# Altium footprint library oscilator.PcbLib: 34 footprints (part 1 of 3)
Each footprint in its own frame and in the unit in brackets; x right, y up, seen from the top. Pads: shape width x height; smd on the part's side, far side on the other; paste and mask are expansions set on the pad; w line width, h text height; cw(c..) or ccw(c..) is an arc to the next point about the centre after c.
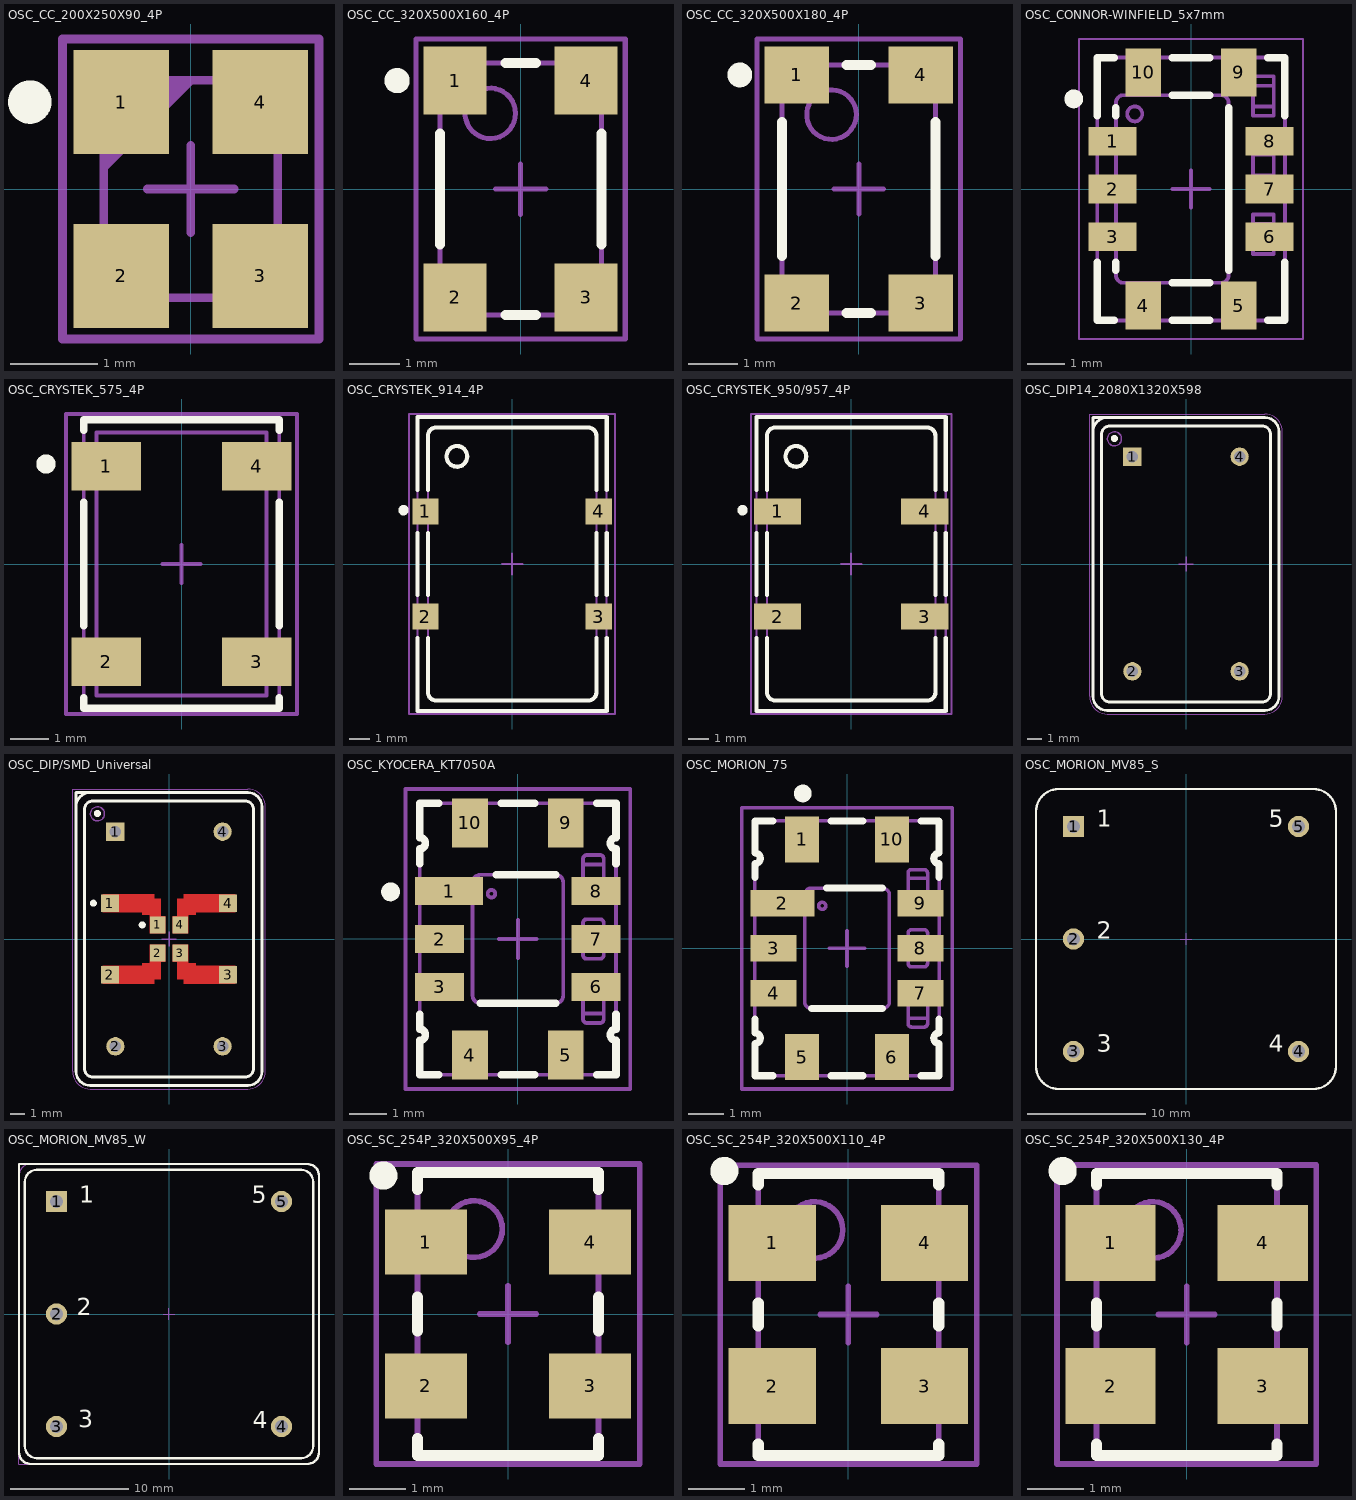
[diagram p0: the footprints below, top view; thin cyan lines are the x and y axes]

## OSC_CC_200X250X90_4P [mm] "Oscillator, corner concave; 4 pin, 2.50mm L X 2.00mm W X 0.90mm H, IPC Medium Density"
height 0.9
pads (4):
  rect 1.1x1.2 smd: 1(-0.8,1) 2(-0.8,-1) 3(0.8,-1) 4(0.8,1)
Top Overlay:
  circle w0.25: c-1.85,1 r0.125
Mechanical 1:
  lines w0.1: -1,0.25 0,1.25 ; -1,0.35 -0.1,1.25 ; -1,0.45 -0.2,1.25 ; -1,0.55 -0.3,1.25 ; -1,0.65 -0.4,1.25 ; -1,0.75 -0.5,1.25 ; -1,0.85 -0.6,1.25 ; -1,0.95 -0.7,1.25 ; -1,1.05 -0.8,1.25 ; -1,1.15 -0.9,1.25 ; -1,-1.25 -1,1.25 1,1.25 1,-1.25 -1,-1.25
Mechanical 15:
  lines w0.1: -0.5,0 0.5,0 ; 0,-0.5 0,0.5 ; -1.475,-1.725 1.475,-1.725 1.475,1.725 -1.475,1.725 -1.475,-1.725
3D body "OSCCC200X250X90-4N.stp": height 0.8, standoff 0, extent -1.075,-1.325 1.075,1.325

## OSC_CC_320X500X160_4P [mm] "SMD Oscillator, Corner Convave, 4 pins, 5x3.2mm"
height 1.6
pads (4):
  rect 1.25x1.35 smd: 1(-1.3,2.15) 2(-1.3,-2.15) 3(1.3,-2.15) 4(1.3,2.15)
Top Overlay:
  circle w0.25: c-2.45,2.15 r0.125
  lines w0.2: -1.6,-1.1 -1.6,1.1 ; -0.3,-2.5 0.3,-2.5 ; -0.3,2.5 0.3,2.5 ; 1.6,-1.1 1.6,1.1
Mechanical 1:
  circle w0.1: c-0.6,1.5 r0.5
  lines w0.1: -1.6,-2.5 1.6,-2.5 1.6,2.5 -1.6,2.5 -1.6,-2.5
Mechanical 15:
  lines w0.1: -0.5,0 0.5,0 ; 0,-0.5 0,0.5 ; -2.075,-2.974 2.075,-2.974 2.075,2.975 -2.075,2.975 -2.075,-2.974
3D body "OSCCC320X500X160-4N.stp": height 1.6, standoff 0, extent -1.675,-2.575 1.675,2.575

## OSC_CC_320X500X180_4P [mm] "SMD Oscillator, Corner Convave, 4 pins, 5x3mm"
height 1.8
pads (4):
  rect 1.3x1.15 smd: 1(-1.25,2.3) 2(-1.25,-2.3) 3(1.25,-2.3) 4(1.25,2.3)
Top Overlay:
  circle w0.25: c-2.4,2.3 r0.125
  lines w0.2: -1.55,-1.35 -1.55,1.35 ; -0.25,-2.5 0.25,-2.5 ; -0.25,2.5 0.25,2.5 ; 1.55,-1.35 1.55,1.35
Mechanical 1:
  circle w0.1: c-0.55,1.5 r0.5
  lines w0.1: -1.55,-2.5 -1.55,2.5 1.55,2.5 1.55,-2.5 -1.55,-2.5
Mechanical 15:
  lines w0.1: -0.5,0 0.5,0 ; 0,-0.5 0,0.5 ; -2.05,-3.025 -2.05,3.025 2.05,3.025 2.05,-3.025 -2.05,-3.025
3D body "OSCCC320X500X180-4N.stp": height 1.8, standoff 0, extent -1.7,-2.6 1.7,2.6

## OSC_CONNOR-WINFIELD_5x7mm [mm] "SMD TCXO, Side Concave, 10 pins, 5.00x7.00mm"
height 2
pads (10):
  rect 1.28x0.76 smd: 1(-2.09,1.27) 2(-2.09,0) 3(-2.09,-1.27) 6(2.09,-1.27) 7(2.09,0) 8(2.09,1.27)
  rect 0.94x1.28 smd: 4(-1.27,-3.105) 5(1.27,-3.105) 9(1.27,3.105) 10(-1.27,3.105)
Top Overlay:
  circle w0.25: c-3.125,2.4 r0.125
  lines w0.2: -2.5,-1.95 -2.5,-3.5 -2.04,-3.5 ; -2.5,1.95 -2.5,3.5 -2.04,3.5 ; -2,-2.165 -2,-1.95 ; -2,1.95 -2,2.165 ; -0.5,-3.5 0.5,-3.5 ; -0.5,-2.5 0.5,-2.5 ; -0.5,2.5 0.5,2.5 ; -0.5,3.5 0.5,3.5 ; 1,-2.165 1,2.165 ; 2.04,-3.5 2.5,-3.5 2.5,-1.95 ; 2.04,3.5 2.5,3.5 2.5,1.95
Mechanical 1:
  circle w0.1: c-1.5,2 r0.2
  lines w0.1: 1.556,-3.5 1.651,-3.5 ; 1.65,-1.48 2.2,-1.48 ; 1.65,-0.93 2.2,-0.93 ; 1.65,0.36 2.2,0.36 ; 1.65,0.91 2.2,0.91 ; 1.65,2.2 2.2,2.2 ; 1.651,2.75 2.2,2.75 ; -2.5,-3.5 -2.5,-1.508 ccw(c-2.5,-1.27) -2.5,-1.032 -2.5,-0.238 ccw(c-2.5,0) -2.5,0.238 -2.5,1.032 ccw(c-2.5,1.27) -2.5,1.508 -2.5,3.5 -1.581,3.5 ccw(c-1.27,3.5) -0.959,3.5 0.959,3.5 ccw(c1.27,3.5) 1.581,3.5 2.5,3.5 2.5,1.508 ccw(c2.5,1.27) 2.5,1.032 2.5,0.238 ccw(c2.5,0) 2.5,-0.238 2.5,-1.032 ccw(c2.5,-1.27) 2.5,-1.508 2.5,-3.5 1.581,-3.5 ccw(c1.27,-3.5) 0.959,-3.5 -0.959,-3.5 ccw(c-1.27,-3.5) -1.581,-3.5 -2.5,-3.5 ; -2,-2.3 ccw(c-1.8,-2.3) -1.8,-2.5 0.8,-2.5 ccw(c0.8,-2.3) 1,-2.3 1,2.3 ccw(c0.8,2.3) 0.8,2.5 -1.8,2.5 ccw(c-1.8,2.3) -2,2.3 -2,-2.3 ; 1.65,-1.73 1.65,-0.68 2.2,-0.68 2.2,-1.73 1.65,-1.73 ; 1.65,0.11 1.65,1.16 2.2,1.16 2.2,0.11 1.65,0.11 ; 1.651,1.95 1.651,3 2.2,3 2.2,1.95 1.651,1.95
Mechanical 15:
  lines w0.05: -2.98,-3.995 2.98,-3.995 2.98,3.995 -2.98,3.995 -2.98,-3.995
  lines w0.1: -0.5,0 0,0 ; 0,-0.5 0,0 ; 0,0.5 0,0 ; 0.5,0 0,0
3D body "OSC_CONNOR-WINFIELD_D75.stp": height 2, standoff 0, extent -2.5,-3.5 2.5,3.5

## OSC_CRYSTEK_575_4P [mm] "Oscillator, 5.08mm Pitch; 4 Pin, 5.08mm L X 7.5mm W X 2.5mm H"
height 2.5
pads (4):
  rect 1.8x1.27 smd: 1(-1.955,2.54) 2(-1.955,-2.54) 3(1.955,-2.54) 4(1.955,2.54)
Top Overlay:
  circle w0.25: c-3.525,2.6 r0.125
  lines w0.2: -2.54,-3.475 -2.54,-3.75 2.54,-3.75 2.54,-3.475 ; -2.54,-1.605 -2.54,1.605 ; -2.54,3.475 -2.54,3.75 2.54,3.75 2.54,3.475 ; 2.54,-1.605 2.54,1.605
Mechanical 1:
  circle w0.1: c-1.555,2.55 r0.4
  lines w0.1: -2.54,-3.75 2.54,-3.75 2.54,3.75 -2.54,3.75 -2.54,-3.75 ; -2.21,-3.42 2.21,-3.42 2.21,3.42 -2.21,3.42 -2.21,-3.42
Mechanical 15:
  lines w0.1: -0.5,0 0,0 ; 0,-0.5 0,0 ; 0,0.5 0,0 ; 0.5,0 0,0 ; -3,-3.9 -3,3.9 3,3.9 3,-3.9 -3,-3.9
3D body "OSC_CRYSTEK_CCHD-575.stp": height 2.5, standoff 0, extent -2.54,-3.75 2.54,3.75

## OSC_CRYSTEK_914_4P [mm] "Oscillator, 5.08mm Pitch; 4 Pin, 14.2mm L X 9.14mm W X 5.33mm H"
height 5.33
pads (4):
  rect 1.27x1.27 smd: 1(-4.19,2.54) 2(-4.19,-2.54) 3(4.19,-2.54) 4(4.19,2.54)
Top Overlay:
  circle w0.2: c-2.67,5.2 r0.5
  circle w0.25: c-5.25,2.6 r0.125
  lines w0.2: -4.57,-3.575 -4.57,-7.1 4.57,-7.1 4.57,-3.575 ; -4.57,-1.505 -4.57,1.505 ; -4.57,3.575 -4.57,7.1 4.57,7.1 4.57,3.575 ; -4.07,-3.575 -4.07,-6.2 ccw(c-3.67,-6.2) -3.67,-6.6 3.67,-6.6 ccw(c3.67,-6.2) 4.07,-6.2 4.07,-3.575 ; -4.07,-1.505 -4.07,1.505 ; -4.07,3.575 -4.07,6.2 cw(c-3.67,6.2) -3.67,6.6 3.67,6.6 cw(c3.67,6.2) 4.07,6.2 4.07,3.575 ; 4.07,-1.505 4.07,1.505 ; 4.57,-1.505 4.57,1.505
Mechanical 1:
  circle w0.1: c-2.67,5.2 r0.5
  lines w0.1: -4.57,-3.045 -4.07,-3.045 ; -4.57,-2.035 -4.07,-2.035 ; -4.57,2.035 -4.07,2.035 ; -4.57,3.045 -4.07,3.045 ; 4.07,-3.045 4.57,-3.045 ; 4.07,-2.035 4.57,-2.035 ; 4.07,2.035 4.57,2.035 ; 4.07,3.045 4.57,3.045 ; -4.57,-7.1 4.57,-7.1 4.57,-2.94 cw(c4.57,-2.54) 4.57,-2.14 4.57,2.14 cw(c4.57,2.54) 4.57,2.94 4.57,7.1 -4.57,7.1 -4.57,2.94 cw(c-4.57,2.54) -4.57,2.14 -4.57,-2.14 cw(c-4.57,-2.54) -4.57,-2.94 -4.57,-7.1 ; -4.07,-6.2 ccw(c-3.67,-6.2) -3.67,-6.6 3.67,-6.6 ccw(c3.67,-6.2) 4.07,-6.2 4.07,6.2 ccw(c3.67,6.2) 3.67,6.6 -3.67,6.6 ccw(c-3.67,6.2) -4.07,6.2 -4.07,-6.2
Mechanical 15:
  lines w0.1: -0.5,0 0,0 ; 0,-0.5 0,0 ; 0,0.5 0,0 ; 0.5,0 0,0 ; -4.975,-7.25 -4.975,7.25 4.975,7.25 4.975,-7.25 -4.975,-7.25
3D body "OSC_CRYSTEK_CVCSO-914.stp": height 5.3, standoff 0, extent -4.57,-7.1 4.57,7.1

## OSC_CRYSTEK_950/957_4P [mm] "Oscillator, 5.08mm Pitch; 4 Pin, 14.2mm L X 9.14mm W X 5.3mm H"
height 5.3
pads (4):
  rect 2.28x1.27 smd: 1(-3.555,2.54) 2(-3.555,-2.54) 3(3.555,-2.54) 4(3.555,2.54)
Top Overlay:
  circle w0.25: c-5.25,2.6 r0.125
  circle w0.2: c-2.67,5.2 r0.5
  lines w0.2: -4.57,-3.575 -4.57,-7.1 4.57,-7.1 4.57,-3.575 ; -4.57,-1.505 -4.57,1.505 ; -4.57,3.575 -4.57,7.1 4.57,7.1 4.57,3.575 ; -4.07,-3.575 -4.07,-6.2 ccw(c-3.67,-6.2) -3.67,-6.6 3.67,-6.6 ccw(c3.67,-6.2) 4.07,-6.2 4.07,-3.575 ; -4.07,-1.505 -4.07,1.505 ; -4.07,3.575 -4.07,6.2 cw(c-3.67,6.2) -3.67,6.6 3.67,6.6 cw(c3.67,6.2) 4.07,6.2 4.07,3.575 ; 4.07,-1.505 4.07,1.505 ; 4.57,-1.505 4.57,1.505
Mechanical 1:
  circle w0.1: c-2.67,5.2 r0.5
  lines w0.1: -4.57,-3.045 -4.07,-3.045 ; -4.57,-2.035 -4.07,-2.035 ; -4.57,2.035 -4.07,2.035 ; -4.57,3.045 -4.07,3.045 ; 4.07,-3.045 4.57,-3.045 ; 4.07,-2.035 4.57,-2.035 ; 4.07,2.035 4.57,2.035 ; 4.07,3.045 4.57,3.045 ; -4.57,-7.1 -4.57,-2.94 ccw(c-4.57,-2.54) -4.57,-2.14 -4.57,2.14 ccw(c-4.57,2.54) -4.57,2.94 -4.57,7.1 4.57,7.1 4.57,2.94 ccw(c4.57,2.54) 4.57,2.14 4.57,-2.14 ccw(c4.57,-2.54) 4.57,-2.94 4.57,-7.1 -4.57,-7.1 ; -4.07,-6.2 ccw(c-3.67,-6.2) -3.67,-6.6 3.67,-6.6 ccw(c3.67,-6.2) 4.07,-6.2 4.07,6.2 ccw(c3.67,6.2) 3.67,6.6 -3.67,6.6 ccw(c-3.67,6.2) -4.07,6.2 -4.07,-6.2
Mechanical 15:
  lines w0.1: -0.5,0 0,0 ; 0,-0.5 0,0 ; 0,0.5 0,0 ; 0.5,0 0,0 ; -4.85,-7.25 4.85,-7.25 4.85,7.25 -4.85,7.25 -4.85,-7.25
3D body "OSC_CRYSTEK_CVHD-950.stp": height 5.3, standoff 0, extent -4.57,-7.1 4.57,7.1

## OSC_DIP14_2080X1320X598 [mm] "Oscillator DIP 14 Leads, Row Spacing 7.62 mm; Pitch 2.54mm"
height 5.98
pads (4):
  rect 1.3x1.3 hole 0.8: 1(-3.81,7.62)
  round 1.3 hole 0.8: 2(-3.81,-7.62) 3(3.81,-7.62) 4(3.81,7.62)
Top Overlay:
  circle w0.25: c-5.081,8.911 r0.125
  lines w0.2: -6.6,9.4 cw(c-5.6,9.4) -5.6,10.4 ; -6.6,-9.4 ccw(c-5.6,-9.4) -5.6,-10.4 5.6,-10.4 ccw(c5.6,-9.4) 6.6,-9.4 6.6,9.4 ccw(c5.6,9.4) 5.6,10.4 -6.6,10.4 -6.6,-9.4 ; -6,-9.2 ccw(c-5.4,-9.2) -5.4,-9.8 5.4,-9.8 ccw(c5.4,-9.2) 6,-9.2 6,9.2 ccw(c5.4,9.2) 5.4,9.8 -5.4,9.8 ccw(c-5.4,9.2) -6,9.2 -6,-9.2
Mechanical 1:
  circle w0.1: c-5.08,8.89 r0.5
  lines w0.1: -6.6,9.4 cw(c-5.6,9.4) -5.6,10.4 ; -6.6,-9.4 ccw(c-5.6,-9.4) -5.6,-10.4 5.6,-10.4 ccw(c5.6,-9.4) 6.6,-9.4 6.6,9.4 ccw(c5.6,9.4) 5.6,10.4 -6.6,10.4 -6.6,-9.4 ; -6,-9.2 ccw(c-5.4,-9.2) -5.4,-9.8 5.4,-9.8 ccw(c5.4,-9.2) 6,-9.2 6,9.2 ccw(c5.4,9.2) 5.4,9.8 -5.4,9.8 ccw(c-5.4,9.2) -6,9.2 -6,-9.2
Mechanical 15:
  lines w0.05: -6.85,-9.4 ccw(c-5.6,-9.4) -5.6,-10.65 5.6,-10.65 ccw(c5.6,-9.4) 6.85,-9.4 6.85,9.4 ccw(c5.6,9.4) 5.6,10.65 -6.85,10.65 -6.85,-9.4
  lines w0.1: -0.5,0 0,0 ; 0,-0.5 0,0 ; 0,0.5 0,0 ; 0.5,0 0,0
3D body "OSCDIP14-300_L2080T1320H598-4A.stp": height 5.98, standoff -3.6, extent -6.6,-10.4 6.6,10.4

## OSC_DIP/SMD_Universal [mm] "Oscillator DIP/SMD Universal"
height 5.98
pads (12):
  rect 1.27x1.27 smd: 1(-4.19,2.54) 2(-4.19,-2.54) 3(4.19,-2.54) 4(4.19,2.54)
  rect 1.3x1.3 hole 0.8: 1(-3.81,7.62)
  rect 1.1x1.2 smd: 1(-0.8,1) 2(-0.8,-1) 3(0.8,-1) 4(0.8,1)
  round 1.3 hole 0.8: 2(-3.81,-7.62) 3(3.81,-7.62) 4(3.81,7.62)
Top Layer:
  region: -1.9,1.905 -3.24,1.905 -4.695,1.905 -4.695,3.175 -1.055,3.175 -1.055,2.875 -0.6,2.875 -0.6,2.228 -0.6,1.725 -1.9,1.725
  region: -1.9,-1.905 -3.24,-1.905 -4.695,-1.905 -4.695,-3.175 -1.055,-3.175 -1.055,-2.875 -0.6,-2.875 -0.6,-2.228 -0.6,-1.725 -1.9,-1.725
  region: -1.35,0.4 -1.35,1.806 -0.6,1.806 -0.6,1.6 -0.25,1.6 -0.25,0.4
  region: 1.9,1.905 3.24,1.905 4.695,1.905 4.695,3.175 1.055,3.175 1.055,2.875 0.601,2.875 0.6,2.228 0.601,1.725 1.9,1.725
  region: 1.35,0.4 1.35,1.806 0.6,1.806 0.6,1.6 0.25,1.6 0.25,0.4
  region: -1.35,-0.4 -1.35,-1.806 -0.6,-1.806 -0.6,-1.6 -0.25,-1.6 -0.25,-0.4
  region: 1.9,-1.905 3.24,-1.905 4.695,-1.905 4.695,-3.175 1.055,-3.175 1.055,-2.875 0.601,-2.875 0.6,-2.228 0.601,-1.725 1.9,-1.725
  region: 1.35,-0.4 1.35,-1.806 0.601,-1.806 0.601,-1.6 0.25,-1.6 0.25,-0.4
Top Overlay:
  circle w0.25: c-5.081,8.911 r0.125
  circle w0.25: c-5.375,2.54 r0.125
  circle w0.25: c-1.9,1 r0.125
  lines w0.2: -6.6,9.4 cw(c-5.6,9.4) -5.6,10.4 ; -6.6,-9.4 ccw(c-5.6,-9.4) -5.6,-10.4 5.6,-10.4 ccw(c5.6,-9.4) 6.6,-9.4 6.6,9.4 ccw(c5.6,9.4) 5.6,10.4 -6.6,10.4 -6.6,-9.4 ; -6,-9.2 ccw(c-5.4,-9.2) -5.4,-9.8 5.4,-9.8 ccw(c5.4,-9.2) 6,-9.2 6,9.2 ccw(c5.4,9.2) 5.4,9.8 -5.4,9.8 ccw(c-5.4,9.2) -6,9.2 -6,-9.2
Mechanical 1:
  circle w0.1: c-5.08,8.89 r0.5
  lines w0.1: -6.6,9.4 cw(c-5.6,9.4) -5.6,10.4 ; -6.6,-9.4 ccw(c-5.6,-9.4) -5.6,-10.4 5.6,-10.4 ccw(c5.6,-9.4) 6.6,-9.4 6.6,9.4 ccw(c5.6,9.4) 5.6,10.4 -6.6,10.4 -6.6,-9.4 ; -6,-9.2 ccw(c-5.4,-9.2) -5.4,-9.8 5.4,-9.8 ccw(c5.4,-9.2) 6,-9.2 6,9.2 ccw(c5.4,9.2) 5.4,9.8 -5.4,9.8 ccw(c-5.4,9.2) -6,9.2 -6,-9.2
Mechanical 15:
  lines w0.05: -6.85,-9.4 ccw(c-5.6,-9.4) -5.6,-10.65 5.6,-10.65 ccw(c5.6,-9.4) 6.85,-9.4 6.85,9.4 ccw(c5.6,9.4) 5.6,10.65 -6.85,10.65 -6.85,-9.4
  lines w0.1: -0.5,0 0.5,0 ; 0,-0.5 0,0.5
3D body "OSCCC200X250X90-4N.stp": height 0.8, standoff 0, extent -1.075,-1.325 1.075,1.325

## OSC_KYOCERA_KT7050A [mm] "Oscillator KT7050A Series, 10 pins, 5x7mm"
height 1.7
pads (10):
  rect 1.8x0.75 smd: 1(-1.825,1.27)
  rect 1.3x0.75 smd: 2(-2.075,0) 3(-2.075,-1.27) 6(2.075,-1.27) 7(2.075,0) 8(2.075,1.27)
  rect 0.95x1.3 smd: 4(-1.27,-3.075) 5(1.27,-3.075) 9(1.27,3.075) 10(-1.27,3.075)
Top Overlay:
  circle w0.25: c-3.375,1.25 r0.125
  lines w0.2: -2.6,-1.995 -2.6,-2.39 cw(c-2.6,-2.54) -2.6,-2.69 -2.6,-3.6 -2.095,-3.6 ; -2.6,1.995 -2.6,2.39 ccw(c-2.6,2.54) -2.6,2.69 -2.6,3.6 -2.095,3.6 ; -1,-1.7 1,-1.7 ; -0.575,1.7 1,1.7 ; -0.445,-3.6 0.445,-3.6 ; -0.445,3.6 0.445,3.6 ; 2.095,-3.6 2.6,-3.6 2.6,-2.69 cw(c2.6,-2.54) 2.6,-2.39 2.6,-1.995 ; 2.095,3.6 2.6,3.6 2.6,2.69 ccw(c2.6,2.54) 2.6,2.39 2.6,1.995
Mechanical 1:
  circle w0.1: c-0.7,1.2 r0.1
  lines w0.1: 1.725,-1.975 2.275,-1.975 ; 1.725,-1.425 2.275,-1.425 ; 1.725,-0.275 2.275,-0.275 ; 1.725,0.275 2.275,0.275 ; 1.725,1.425 2.275,1.425 ; 1.725,1.975 2.275,1.975 ; -2.6,-3.6 -1.42,-3.6 cw(c-1.27,-3.6) -1.12,-3.6 1.12,-3.6 cw(c1.27,-3.6) 1.42,-3.6 2.6,-3.6 2.6,-2.69 cw(c2.6,-2.54) 2.6,-2.39 2.6,-1.42 cw(c2.6,-1.27) 2.6,-1.12 2.6,-0.15 cw(c2.6,0) 2.6,0.15 2.6,1.12 cw(c2.6,1.27) 2.6,1.42 2.6,2.39 cw(c2.6,2.54) 2.6,2.69 2.6,3.6 1.42,3.6 cw(c1.27,3.6) 1.12,3.6 -1.12,3.6 cw(c-1.27,3.6) -1.42,3.6 -2.6,3.6 -2.6,2.69 cw(c-2.6,2.54) -2.6,2.39 -2.6,1.42 cw(c-2.6,1.27) -2.6,1.12 -2.6,0.15 cw(c-2.6,0) -2.6,-0.15 -2.6,-1.12 cw(c-2.6,-1.27) -2.6,-1.42 -2.6,-2.39 cw(c-2.6,-2.54) -2.6,-2.69 -2.6,-3.6 ; -1.2,-1.5 ccw(c-1,-1.5) -1,-1.7 1,-1.7 ccw(c1,-1.5) 1.2,-1.5 1.2,1.5 ccw(c1,1.5) 1,1.7 -1,1.7 ccw(c-1,1.5) -1.2,1.5 -1.2,-1.5 ; 1.725,-2.125 ccw(c1.825,-2.125) 1.825,-2.225 2.175,-2.225 ccw(c2.175,-2.125) 2.275,-2.125 2.275,-1.275 ccw(c2.175,-1.275) 2.175,-1.175 1.825,-1.175 ccw(c1.825,-1.275) 1.725,-1.275 1.725,-2.125 ; 1.725,-0.425 ccw(c1.825,-0.425) 1.825,-0.525 2.175,-0.525 ccw(c2.175,-0.425) 2.275,-0.425 2.275,0.425 ccw(c2.175,0.425) 2.175,0.525 1.825,0.525 ccw(c1.825,0.425) 1.725,0.425 1.725,-0.425 ; 1.725,1.275 ccw(c1.825,1.275) 1.825,1.175 2.175,1.175 ccw(c2.175,1.275) 2.275,1.275 2.275,2.125 ccw(c2.175,2.125) 2.175,2.225 1.825,2.225 ccw(c1.825,2.125) 1.725,2.125 1.725,1.275
Mechanical 15:
  lines w0.1: -0.5,0 0,0 ; 0,-0.5 0,0 ; 0,0.5 0,0 ; 0.5,0 0,0 ; -2.975,-3.975 2.975,-3.975 2.975,3.975 -2.975,3.975 -2.975,-3.975
3D body "OSC_KYOCERA_KT7050A.stp": height 1.7, standoff 0, extent -2.6,-3.6 2.6,3.6

## OSC_MORION_75 [mm] "SMD TCXO, Side Concave, 10 pins, 5.00x7.00mm"
height 1.7
pads (10):
  rect 0.95x1.3 smd: 1(-1.27,3.075) 5(-1.27,-3.075) 6(1.27,-3.075) 10(1.27,3.075)
  rect 1.8x0.75 smd: 2(-1.825,1.27)
  rect 1.3x0.75 smd: 3(-2.075,0) 4(-2.075,-1.27) 7(2.075,-1.27) 8(2.075,0) 9(2.075,1.27)
Top Overlay:
  circle w0.25: c-1.25,4.375 r0.125
  lines w0.2: -2.6,-1.995 -2.6,-2.39 cw(c-2.6,-2.54) -2.6,-2.69 -2.6,-3.6 -2.095,-3.6 ; -2.6,1.995 -2.6,2.39 ccw(c-2.6,2.54) -2.6,2.69 -2.6,3.6 -2.095,3.6 ; -1,-1.7 1,-1.7 ; -0.575,1.7 1,1.7 ; -0.445,-3.6 0.445,-3.6 ; -0.445,3.6 0.445,3.6 ; 2.095,-3.6 2.6,-3.6 2.6,-2.69 cw(c2.6,-2.54) 2.6,-2.39 2.6,-1.995 ; 2.095,3.6 2.6,3.6 2.6,2.69 ccw(c2.6,2.54) 2.6,2.39 2.6,1.995
Mechanical 1:
  circle w0.1: c-0.7,1.2 r0.1
  lines w0.1: 1.725,-1.975 2.275,-1.975 ; 1.725,-1.425 2.275,-1.425 ; 1.725,-0.275 2.275,-0.275 ; 1.725,0.275 2.275,0.275 ; 1.725,1.425 2.275,1.425 ; 1.725,1.975 2.275,1.975 ; -2.6,-3.6 -2.6,-2.69 ccw(c-2.6,-2.54) -2.6,-2.39 -2.6,-1.42 ccw(c-2.6,-1.27) -2.6,-1.12 -2.6,-0.15 ccw(c-2.6,0) -2.6,0.15 -2.6,1.12 ccw(c-2.6,1.27) -2.6,1.42 -2.6,2.39 ccw(c-2.6,2.54) -2.6,2.69 -2.6,3.6 -1.42,3.6 ccw(c-1.27,3.6) -1.12,3.6 1.12,3.6 ccw(c1.27,3.6) 1.42,3.6 2.6,3.6 2.6,2.69 ccw(c2.6,2.54) 2.6,2.39 2.6,1.42 ccw(c2.6,1.27) 2.6,1.12 2.6,0.15 ccw(c2.6,0) 2.6,-0.15 2.6,-1.12 ccw(c2.6,-1.27) 2.6,-1.42 2.6,-2.39 ccw(c2.6,-2.54) 2.6,-2.69 2.6,-3.6 1.42,-3.6 ccw(c1.27,-3.6) 1.12,-3.6 -1.12,-3.6 ccw(c-1.27,-3.6) -1.42,-3.6 -2.6,-3.6 ; -1.2,-1.5 ccw(c-1,-1.5) -1,-1.7 1,-1.7 ccw(c1,-1.5) 1.2,-1.5 1.2,1.5 ccw(c1,1.5) 1,1.7 -1,1.7 ccw(c-1,1.5) -1.2,1.5 -1.2,-1.5 ; 1.725,-2.125 ccw(c1.825,-2.125) 1.825,-2.225 2.175,-2.225 ccw(c2.175,-2.125) 2.275,-2.125 2.275,-1.275 ccw(c2.175,-1.275) 2.175,-1.175 1.825,-1.175 ccw(c1.825,-1.275) 1.725,-1.275 1.725,-2.125 ; 1.725,-0.425 ccw(c1.825,-0.425) 1.825,-0.525 2.175,-0.525 ccw(c2.175,-0.425) 2.275,-0.425 2.275,0.425 ccw(c2.175,0.425) 2.175,0.525 1.825,0.525 ccw(c1.825,0.425) 1.725,0.425 1.725,-0.425 ; 1.725,1.275 ccw(c1.825,1.275) 1.825,1.175 2.175,1.175 ccw(c2.175,1.275) 2.275,1.275 2.275,2.125 ccw(c2.175,2.125) 2.175,2.225 1.825,2.225 ccw(c1.825,2.125) 1.725,2.125 1.725,1.275
Mechanical 15:
  lines w0.1: -0.5,0 0,0 ; 0,-0.5 0,0 ; 0,0.5 0,0 ; 0.5,0 0,0 ; -2.975,-3.975 -2.975,3.975 2.975,3.975 2.975,-3.975 -2.975,-3.975
3D body "OSC_KYOCERA_KT7050A.stp": height 1.7, standoff 0, extent -2.6,-3.6 2.6,3.6

## OSC_MORION_MV85_S [mm] "5 Pins, 25.4mm x 25.4mm, Soldered Case"
height 19
pads (5):
  rect 1.8x1.8 hole 1.1: 1(-9.525,9.525)
  round 1.8 hole 1.1: 2(-9.525,0) 3(-9.525,-9.525) 4(9.525,-9.525) 5(9.525,9.525)
Top Overlay:
  lines w0.2: -12.7,-10.795 ccw(c-10.795,-10.795) -10.795,-12.7 10.795,-12.7 ccw(c10.795,-10.795) 12.7,-10.795 12.7,10.795 ccw(c10.795,10.795) 10.795,12.7 -10.795,12.7 ccw(c-10.795,10.795) -12.7,10.795 -12.7,-10.795
  text "2" at -7.55,-0.5 h2.5
  text "3" at -7.55,-10.075 h2.5
  text "4" at 7,-10.075 h2.5
  text "5" at 7,9 h2.5
  text "1" at -7.55,9 h2.5
Mechanical 1:
  lines w0.1: -12.7,-10.795 ccw(c-10.795,-10.795) -10.795,-12.7 10.795,-12.7 ccw(c10.795,-10.795) 12.7,-10.795 12.7,10.795 ccw(c10.795,10.795) 10.795,12.7 -10.795,12.7 ccw(c-10.795,10.795) -12.7,10.795 -12.7,-10.795
  text "1" at -7.548,8.999 h2.5
  text "2" at -7.546,-0.499 h2.5
  text "3" at -7.552,-10.075 h2.5
  text "4" at 6.996,-10.074 h2.5
  text "5" at 7,9 h2.5
Mechanical 15:
  lines w0.1: -0.5,0 0,0 ; 0,-0.5 0,0 ; 0,0.5 0,0 ; 0.5,0 0,0 ; -12.7,-10.795 ccw(c-10.795,-10.795) -10.795,-12.7 10.795,-12.7 ccw(c10.795,-10.795) 12.7,-10.795 12.7,10.795 ccw(c10.795,10.795) 10.795,12.7 -10.795,12.7 ccw(c-10.795,10.795) -12.7,10.795 -12.7,-10.795
3D body "OSC_WENZEL_501-22578-XX.stp": height 13.08, standoff -3.17, extent -12.7,-12.7 12.7,12.7

## OSC_MORION_MV85_W [mm] "5 Pins, 25.8mm x 25.8mm, Welded Case"
height 12.7
pads (5):
  rect 1.8x1.8 hole 1.1: 1(-9.525,9.525)
  round 1.8 hole 1.1: 2(-9.525,0) 3(-9.525,-9.525) 4(9.525,-9.525) 5(9.525,9.525)
Top Overlay:
  lines w0.2: -12.7,-11.7 ccw(c-11.7,-11.7) -11.7,-12.7 11.7,-12.7 ccw(c11.7,-11.7) 12.7,-11.7 12.7,11.7 ccw(c11.7,11.7) 11.7,12.7 -12.7,12.7 -12.7,-11.7 ; -12.2,-11.2 ccw(c-11.2,-11.2) -11.2,-12.2 11.2,-12.2 ccw(c11.2,-11.2) 12.2,-11.2 12.2,11.2 ccw(c11.2,11.2) 11.2,12.2 -11.2,12.2 ccw(c-11.2,11.2) -12.2,11.2 -12.2,-11.2
  text "1" at -7.6,8.9 h2.5
  text "3" at -7.703,-10.093 h2.5
  text "2" at -7.8,-0.6 h2.5
  text "4" at 7.099,-10.2 h2.5
  text "5" at 7,8.9 h2.5
Mechanical 1:
  lines w0.1: -12.7,-12.7 11.7,-12.7 ccw(c11.7,-11.7) 12.7,-11.7 12.7,11.7 ccw(c11.7,11.7) 11.7,12.7 -11.7,12.7 ccw(c-11.7,11.7) -12.7,11.7 -12.7,-12.7 ; -12.2,-11.2 ccw(c-11.2,-11.2) -11.2,-12.2 11.2,-12.2 ccw(c11.2,-11.2) 12.2,-11.2 12.2,11.2 ccw(c11.2,11.2) 11.2,12.2 -11.2,12.2 ccw(c-11.2,11.2) -12.2,11.2 -12.2,-11.2
  text "4" at 7.1,-10.2 h2.5
  text "5" at 7,8.9 h2.5
  text "3" at -7.7,-10.1 h2.5
  text "2" at -7.8,-0.6 h2.5
  text "1" at -7.6,8.9 h2.5
Mechanical 15:
  lines w0.1: -0.5,0 0,0 ; 0,-0.5 0,0 ; 0,0.5 0,0 ; 0.5,0 0,0 ; -12.7,-12.7 -12.7,11.7 cw(c-11.7,11.7) -11.7,12.7 11.7,12.7 cw(c11.7,11.7) 12.7,11.7 12.7,-11.7 cw(c11.7,-11.7) 11.7,-12.7 -12.7,-12.7
3D body "OSC_CONNOR-WINFIELD_OH100.stp": height 12.7, standoff -3, extent -12.7,-12.7 12.7,12.7

## OSC_SC_254P_320X500X95_4P [mm] "Oscillator, side concave; 2.54mm pitch; 4 pin, 3.20mm L X 5.00mm W X 1.10mm H, IPC Medium Density"
height 0.95
pads (4):
  rect 1.45x1.15 smd: 1(-1.45,1.27) 2(-1.45,-1.27) 3(1.45,-1.27) 4(1.45,1.27)
Top Overlay:
  circle w0.25: c-2.2,2.445 r0.125
  lines w0.2: -1.6,-2.2 -1.6,-2.5 1.6,-2.5 1.6,-2.2 ; -1.6,-0.3 -1.6,0.3 ; -1.6,2.2 -1.6,2.5 1.6,2.5 1.6,2.2 ; 1.6,-0.3 1.6,0.3
Mechanical 1:
  circle w0.1: c-0.6,1.5 r0.5
  lines w0.1: -1.6,-2.5 1.6,-2.5 1.6,2.5 -1.6,2.5 -1.6,-2.5
Mechanical 15:
  lines w0.1: -0.5,0 0.5,0 ; 0,-0.5 0,0.5 ; -2.325,-2.65 2.325,-2.65 2.325,2.65 -2.325,2.65 -2.325,-2.65
3D body "OSCSC254P320X500X110-4N.stp": height 1, standoff 0, extent -1.7,-2.6 1.7,2.6

## OSC_SC_254P_320X500X110_4P [mm] "Oscillator, side concave; 2.54mm pitch; 4 pin, 3.20mm L X 5.00mm W X 1.10mm H, IPC Medium Density"
height 1.1
pads (4):
  rect 1.55x1.35 smd: 1(-1.35,1.27) 2(-1.35,-1.27) 3(1.35,-1.27) 4(1.35,1.27)
Top Overlay:
  circle w0.25: c-2.2,2.545 r0.125
  lines w0.2: -1.6,-2.3 -1.6,-2.5 1.6,-2.5 1.6,-2.3 ; -1.6,-0.2 -1.6,0.2 ; -1.6,2.3 -1.6,2.5 1.6,2.5 1.6,2.3 ; 1.6,-0.2 1.6,0.2
Mechanical 1:
  circle w0.1: c-0.6,1.5 r0.5
  lines w0.1: -1.6,-2.5 1.6,-2.5 1.6,2.5 -1.6,2.5 -1.6,-2.5
Mechanical 15:
  lines w0.1: -0.5,0 0.5,0 ; 0,-0.5 0,0.5 ; -2.275,-2.65 2.275,-2.65 2.275,2.65 -2.275,2.65 -2.275,-2.65
3D body "OSCSC254P320X500X110-4N.stp": height 1, standoff 0, extent -1.7,-2.6 1.7,2.6

## OSC_SC_254P_320X500X130_4P [mm] "Oscillator, Side Concave; 2.54mm Pitch; 4 pin, 3.20mm L X 5.00mm W X 1.30mm H, IPC Medium Density"
height 1.3
pads (4):
  rect 1.6x1.35 smd: 1(-1.35,1.27) 2(-1.35,-1.27) 3(1.35,-1.27) 4(1.35,1.27)
Top Overlay:
  circle w0.25: c-2.2,2.545 r0.125
  lines w0.2: -1.6,-2.3 -1.6,-2.5 1.6,-2.5 1.6,-2.3 ; -1.6,-0.2 -1.6,0.2 ; -1.6,2.3 -1.6,2.5 1.6,2.5 1.6,2.3 ; 1.6,-0.2 1.6,0.2
Mechanical 1:
  circle w0.1: c-0.6,1.5 r0.5
  lines w0.1: -1.6,-2.5 1.6,-2.5 1.6,2.5 -1.6,2.5 -1.6,-2.5
Mechanical 15:
  lines w0.1: -0.5,0 0.5,0 ; 0,-0.5 0,0.5 ; -2.3,-2.65 -2.3,2.653 2.3,2.653 2.3,-2.65 -2.3,-2.65
3D body "OSCSC254P320X500X130-4N.stp": height 1.3, standoff 0, extent -1.7,-2.6 1.7,2.6